# Altium footprint library QSOP.PcbLib: 1 footprints
Each footprint in its own frame and in the unit in brackets; x right, y up, seen from the top. Pads: shape width x height; smd on the part's side, far side on the other; paste and mask are expansions set on the pad; w line width, h text height; cw(c..) or ccw(c..) is an arc to the next point about the centre after c.
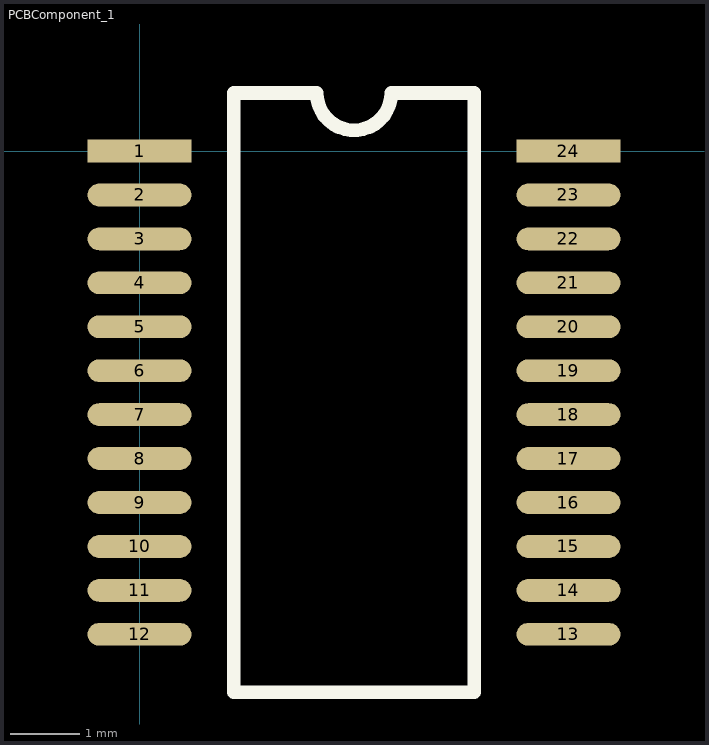
[diagram p0: the footprint, top view; thin cyan lines are the x and y axes]

## PCBComponent_1 [mm]
pads (24):
  rect 1.5x0.33 smd: 1(0,0) 24(6.2,0)
  oval 1.5x0.33 smd: 2(0,-0.635) 3(0,-1.27) 4(0,-1.905) 5(0,-2.54) 6(0,-3.175) 7(0,-3.81) 8(0,-4.445) 9(0,-5.08) 10(0,-5.715) 11(0,-6.35) 12(0,-6.985) 13(6.2,-6.985) 14(6.2,-6.35) 15(6.2,-5.715) 16(6.2,-5.08) 17(6.2,-4.445) 18(6.2,-3.81) 19(6.2,-3.175) 20(6.2,-2.54) 21(6.2,-1.905) 22(6.2,-1.27) 23(6.2,-0.635)
Top Overlay:
  lines w0.2: 1.361,-7.822 4.839,-7.821 4.839,0.839 3.639,0.839 cw(c3.1,0.837) 2.561,0.838 1.361,0.838 1.361,-7.822